# Altium integrated library LMS1587CT-ADJ.IntLib: 1 symbol
Pins are listed as number, name and electrical type; pins without a type are passive.

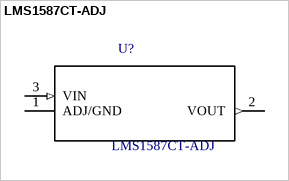
[diagram p0: symbol LMS1587CT-ADJ]

## LMS1587CT-ADJ
designator U?
SnapEDA_Link: https://www.snapeda.com/parts/LMS1587CT-ADJ/Texas%20Instruments/view-part/24964/?ref=snap; Value: *
footprint *TO254P470X1016X2222-3P
pins: 1 ADJ/GND, 2 VOUT (out), 3 VIN (in)